# Altium footprint library Molex46437-1150.PcbLib: 1 footprints
Each footprint in its own frame and in the unit in brackets; x right, y up, seen from the top. Pads: shape width x height; smd on the part's side, far side on the other; paste and mask are expansions set on the pad; w line width, h text height; cw(c..) or ccw(c..) is an arc to the next point about the centre after c.
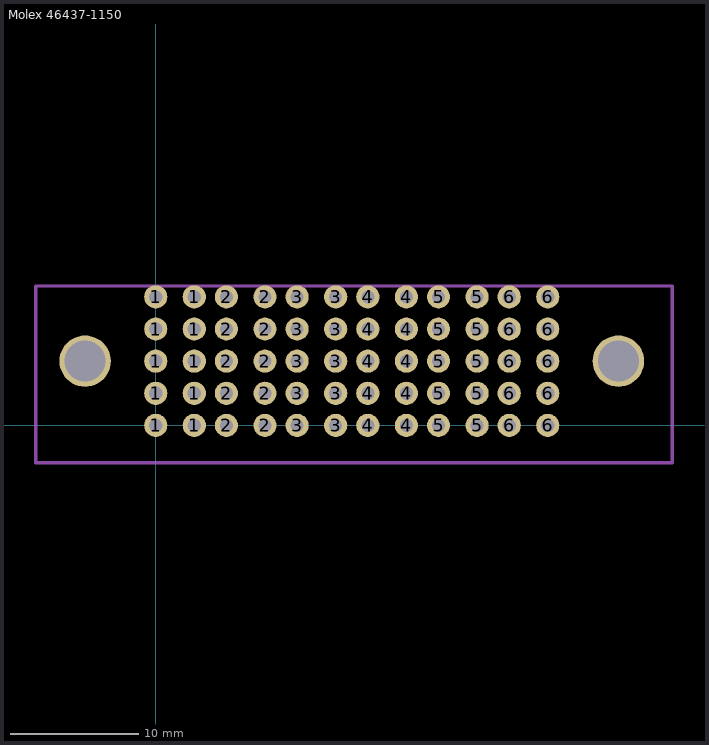
[diagram p0: the footprint, top view; thin cyan lines are the x and y axes]

## Molex 46437-1150 [mm] "Molex 46437-1150"
pads (62):
  round 1.8 hole 1.02: 1(0,0) 1(0,2.5) 1(0,5) 1(0,7.5) 1(0,10) 1(3,0) 1(3,2.5) 1(3,5) 1(3,7.5) 1(3,10) 2(5.5,0) 2(5.5,2.5) 2(5.5,5) 2(5.5,7.5) 2(5.5,10) 2(8.5,0) 2(8.5,2.5) 2(8.5,5) 2(8.5,7.5) 2(8.5,10) 3(11,0) 3(11,2.5) 3(11,5) 3(11,7.5) 3(11,10) 3(14,0) 3(14,2.5) 3(14,5) 3(14,7.5) 3(14,10) 4(16.5,0) 4(16.5,2.5) 4(16.5,5) 4(16.5,7.5) 4(16.5,10) 4(19.5,0) 4(19.5,2.5) 4(19.5,5) 4(19.5,7.5) 4(19.5,10) 5(22,0) 5(22,2.5) 5(22,5) 5(22,7.5) 5(22,10) 5(25,0) 5(25,2.5) 5(25,5) 5(25,7.5) 5(25,10) 6(27.5,0) 6(27.5,2.5) 6(27.5,5) 6(27.5,7.5) 6(27.5,10) 6(30.5,0) 6(30.5,2.5) 6(30.5,5) 6(30.5,7.5) 6(30.5,10)
  round 4 hole 3.2 unplated: ""(-5.5,5) ""(36,5)
Mechanical 1:
  lines w0.254: -9.33,-2.9 40.18,-2.9 40.18,10.85 -9.33,10.85 -9.33,-2.9